# Altium footprint library DialogSemiconductor.PcbLib: 2 footprints
Each footprint in its own frame and in the unit in brackets; x right, y up, seen from the top. Pads: shape width x height; smd on the part's side, far side on the other; paste and mask are expansions set on the pad; w line width, h text height; cw(c..) or ccw(c..) is an arc to the next point about the centre after c.
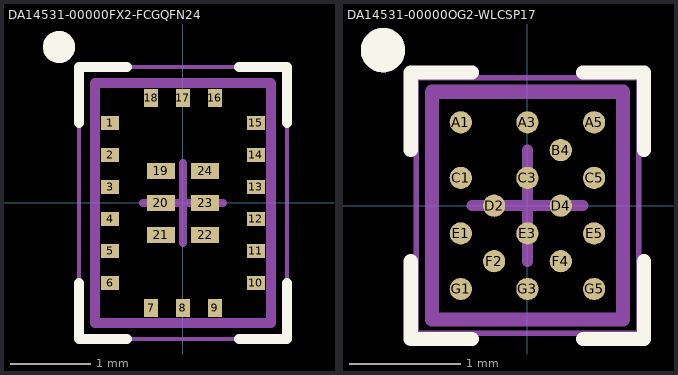
[diagram p0: the footprints below, top view; thin cyan lines are the x and y axes]

## DA14531-00000FX2-FCGQFN24 [mm] "FCGQFN24 footprint for DA14531"
pads (24):
  rect 0.225x0.18 smd paste-0.03 mask+0.05: 1(-0.913,1) 2(-0.913,0.6) 3(-0.913,0.2) 4(-0.913,-0.2) 5(-0.913,-0.6) 6(-0.913,-1) 10(0.913,-1) 11(0.913,-0.6) 12(0.913,-0.2) 13(0.913,0.2) 14(0.913,0.6) 15(0.913,1)
  rect 0.18x0.225 smd paste-0.03 mask+0.05: 7(-0.4,-1.312) 8(0,-1.312) 9(0.4,-1.312) 16(0.4,1.313) 17(0,1.313) 18(-0.4,1.313)
  rect 0.35x0.2 smd paste-0.03 mask+0.05: 19(-0.275,0.4) 20(-0.275,0) 21(-0.275,-0.4) 22(0.275,-0.4) 23(0.275,0) 24(0.275,0.4)
Top Overlay:
  circle w0.2: c-1.55,1.95 r0.1
  lines w0.127: -1.3,-1 -1.3,-1.7 -0.7,-1.7 ; -1.3,1 -1.3,1.7 -0.7,1.7 ; 0.7,-1.7 1.3,-1.7 1.3,-1 ; 0.7,1.7 1.3,1.7 1.3,1
Top 3D Body:
  circle w0.2: c-1.55,1.95 r0.1
  lines w0.127: -1.1,-1.5 -1.1,1.5 1.1,1.5 1.1,-1.5 -1.1,-1.5
Top Assembly (Mech15):
  lines w0.05: -1.3,-1.7 -1.3,1.7 1.3,1.7 1.3,-1.7 -1.3,-1.7
  lines w0.1: -0.5,0 0.5,0 ; 0,-0.5 0,0.5
3D body: height 0.7, standoff 0, extent -1.11,-1.5 1.1,1.5

## DA14531-00000OG2-WLCSP17 [mm] "WLCSP17 footprint for DA14531"
pads (17):
  round 0.2 smd paste-1 mask+0: A1(-0.6,0.75) A3(0,0.75) A5(0.6,0.75) B4(0.3,0.5) C1(-0.6,0.25) C3(0,0.25) C5(0.6,0.25) D2(-0.3,0) D4(0.3,0) E1(-0.6,-0.25) E3(0,-0.25) E5(0.6,-0.25) F2(-0.3,-0.5) F4(0.3,-0.5) G1(-0.6,-0.75) G3(0,-0.75) G5(0.6,-0.75)
Top Overlay:
  circle w0.2: c-1.3,1.4 r0.1
  lines w0.127: -1.05,-0.5 -1.05,-1.2 -0.5,-1.2 ; -1.05,0.5 -1.05,1.2 -0.5,1.2 ; 0.5,-1.2 1.05,-1.2 1.05,-0.5 ; 0.5,1.2 1.05,1.2 1.05,0.5
Top Paste:
  circle w0.09: c-0.6,0.75 r0.045
  circle w0.09: c0,0.75 r0.045
  circle w0.09: c0.6,0.75 r0.045
  circle w0.09: c0.6,0.25 r0.045
  circle w0.09: c0.6,-0.25 r0.045
  circle w0.09: c0.6,-0.75 r0.045
  circle w0.09: c0,0.25 r0.045
  circle w0.09: c-0.6,0.25 r0.045
  circle w0.09: c0,-0.25 r0.045
  circle w0.09: c-0.6,-0.25 r0.045
  circle w0.09: c0,-0.75 r0.045
  circle w0.09: c-0.6,-0.75 r0.045
  circle w0.09: c0.3,0.5 r0.045
  circle w0.09: c0.3,0 r0.045
  circle w0.09: c0.3,-0.5 r0.045
  circle w0.09: c-0.3,0 r0.045
  circle w0.09: c-0.3,-0.5 r0.045
Top Solder:
  circle w0.122: c-0.3,0 r0.061
  circle w0.122: c-0.6,0.75 r0.061
  circle w0.122: c0,0.75 r0.061
  circle w0.122: c0.6,0.75 r0.061
  circle w0.122: c0.6,0.25 r0.061
  circle w0.122: c0.6,-0.25 r0.061
  circle w0.122: c0.6,-0.75 r0.061
  circle w0.122: c0,0.25 r0.061
  circle w0.122: c-0.6,0.25 r0.061
  circle w0.122: c0,-0.25 r0.061
  circle w0.122: c-0.6,-0.25 r0.061
  circle w0.122: c0,-0.75 r0.061
  circle w0.122: c-0.6,-0.75 r0.061
  circle w0.122: c0.3,0 r0.061
  circle w0.122: c0.3,0.5 r0.061
  circle w0.122: c0.3,-0.5 r0.061
  circle w0.122: c-0.3,-0.5 r0.061
Top 3D Body:
  circle w0.2: c-1.3,1.4 r0.1
  lines w0.127: -0.86,-1.025 0.86,-1.025 0.86,1.025 -0.86,1.025 -0.86,-1.025
Top Assembly (Mech15):
  lines w0.05: -1,-1.15 1,-1.15 1,1.15 -1,1.15 -1,-1.15
  lines w0.1: -0.5,0 0.5,0 ; 0,-0.5 0,0.5
3D body: height 0.38, standoff 0, extent -0.86,-1.025 0.86,1.025